# EAGLE library part LM317-SO8 (library freebus)
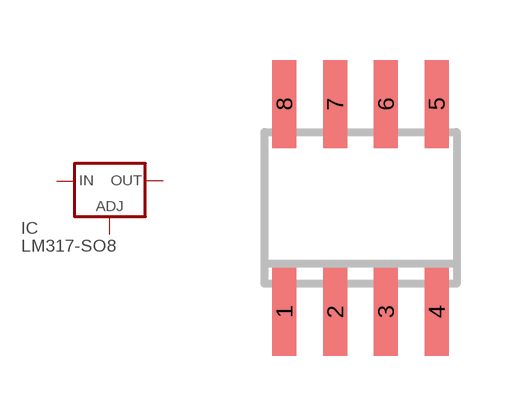
[diagram p0: symbol with the pads of SO-8; footprint SO-8]

Designator prefix IC

## LM317-SO8  [SO-8]
1  IN  in
2  OUT  pas
3  OUT  pas
4  ADJ  in
5  NC  nc
6  OUT  pas
7  OUT  pas
8  NC  nc

## Footprint SO-8 (pad centres in mm)
smd 0.6 x 2.2: 1 -1.905,-2.6; 2 -0.635,-2.6; 3 0.635,-2.6; 4 1.905,-2.6; 5 1.905,2.6; 6 0.635,2.6; 7 -0.635,2.6; 8 -1.905,2.6